# EAGLE library part STM32F4-DISCOVERY (library STM32F4-DISCOVERY)
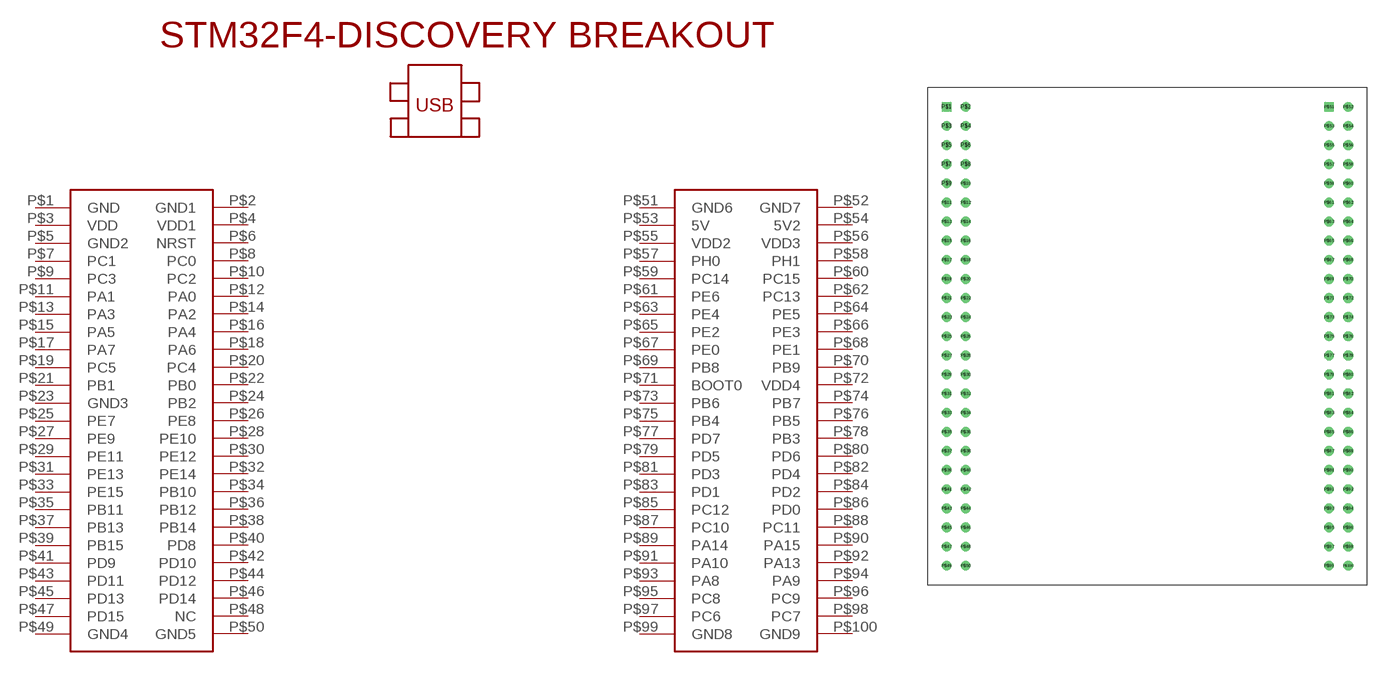
[diagram p0: symbol with the pads of STM32F4-DISCOVERY; footprint STM32F4-DISCOVERY]

Designator prefix -

## STM32F4-DISCOVERY  [STM32F4-DISCOVERY]
P$1  GND
P$2  GND1
P$3  VDD
P$4  VDD1
P$5  GND2
P$6  NRST
P$7  PC1
P$8  PC0
P$9  PC3
P$10  PC2
P$11  PA1
P$12  PA0
P$13  PA3
P$14  PA2
P$15  PA5
P$16  PA4
P$17  PA7
P$18  PA6
P$19  PC5
P$20  PC4
P$21  PB1
P$22  PB0
P$23  GND3
P$24  PB2
P$25  PE7
P$26  PE8
P$27  PE9
P$28  PE10
P$29  PE11
P$30  PE12
P$31  PE13
P$32  PE14
P$33  PE15
P$34  PB10
P$35  PB11
P$36  PB12
P$37  PB13
P$38  PB14
P$39  PB15
P$40  PD8
P$41  PD9
P$42  PD10
P$43  PD11
P$44  PD12
P$45  PD13
P$46  PD14
P$47  PD15
P$48  NC
P$49  GND4
P$50  GND5
P$51  GND6
P$52  GND7
P$53  5V
P$54  5V2
P$55  VDD2
P$56  VDD3
P$57  PH0
P$58  PH1
P$59  PC14
P$60  PC15
P$61  PE6
P$62  PC13
P$63  PE4
P$64  PE5
P$65  PE2
P$66  PE3
P$67  PE0
P$68  PE1
P$69  PB8
P$70  PB9
P$71  BOOT0
P$72  VDD4
P$73  PB6
P$74  PB7
P$75  PB4
P$76  PB5
P$77  PD7
P$78  PB3
P$79  PD5
P$80  PD6
P$81  PD3
P$82  PD4
P$83  PD1
P$84  PD2
P$85  PC12
P$86  PD0
P$87  PC10
P$88  PC11
P$89  PA14
P$90  PA15
P$91  PA10
P$92  PA13
P$93  PA8
P$94  PA9
P$95  PC8
P$96  PC9
P$97  PC6
P$98  PC7
P$99  GND8
P$100  GND9

## Footprint STM32F4-DISCOVERY (pad centres in mm)
drill 0.8 square: P$1 -27.94,30.48; P$51 22.86,30.48
drill 0.8 round: P$2 -25.4,30.48; P$3 -27.94,27.94; P$4 -25.4,27.94; P$5 -27.94,25.4; P$6 -25.4,25.4; P$7 -27.94,22.86; P$8 -25.4,22.86; P$9 -27.94,20.32; P$10 -25.4,20.32; P$11 -27.94,17.78; P$12 -25.4,17.78; P$13 -27.94,15.24; P$14 -25.4,15.24; P$15 -27.94,12.7; P$16 -25.4,12.7; P$17 -27.94,10.16; P$18 -25.4,10.16; P$19 -27.94,7.62; P$20 -25.4,7.62; P$21 -27.94,5.08; P$22 -25.4,5.08; P$23 -27.94,2.54; P$24 -25.4,2.54; P$25 -27.94,0; P$26 -25.4,0; P$27 -27.94,-2.54; P$28 -25.4,-2.54; P$29 -27.94,-5.08; P$30 -25.4,-5.08; P$31 -27.94,-7.62; P$32 -25.4,-7.62; P$33 -27.94,-10.16; P$34 -25.4,-10.16; P$35 -27.94,-12.7; P$36 -25.4,-12.7; P$37 -27.94,-15.24; P$38 -25.4,-15.24; P$39 -27.94,-17.78; P$40 -25.4,-17.78; P$41 -27.94,-20.32; P$42 -25.4,-20.32; P$43 -27.94,-22.86; P$44 -25.4,-22.86; P$45 -27.94,-25.4; P$46 -25.4,-25.4; P$47 -27.94,-27.94; P$48 -25.4,-27.94; P$49 -27.94,-30.48; P$50 -25.4,-30.48; P$52 25.4,30.48; P$53 22.86,27.94; P$54 25.4,27.94; P$55 22.86,25.4; P$56 25.4,25.4; P$57 22.86,22.86; P$58 25.4,22.86; P$59 22.86,20.32; P$60 25.4,20.32; P$61 22.86,17.78; P$62 25.4,17.78; P$63 22.86,15.24; P$64 25.4,15.24; P$65 22.86,12.7; P$66 25.4,12.7; P$67 22.86,10.16; P$68 25.4,10.16; P$69 22.86,7.62; P$70 25.4,7.62; P$71 22.86,5.08; P$72 25.4,5.08; P$73 22.86,2.54; P$74 25.4,2.54; P$75 22.86,0; P$76 25.4,0; P$77 22.86,-2.54; P$78 25.4,-2.54; P$79 22.86,-5.08; P$80 25.4,-5.08; P$81 22.86,-7.62; P$82 25.4,-7.62; P$83 22.86,-10.16; P$84 25.4,-10.16; P$85 22.86,-12.7; P$86 25.4,-12.7; P$87 22.86,-15.24; P$88 25.4,-15.24; P$89 22.86,-17.78; P$90 25.4,-17.78; P$91 22.86,-20.32; P$92 25.4,-20.32; P$93 22.86,-22.86; P$94 25.4,-22.86; P$95 22.86,-25.4; P$96 25.4,-25.4; P$97 22.86,-27.94; P$98 25.4,-27.94; P$99 22.86,-30.48; P$100 25.4,-30.48